# EAGLE library part 615016149521 (library WE_Stecker)
WR-MJ_Modular Jack_Tab UP_8P8C_Assembly1x2 8P8C Tab UP_Pre-Assembly 1x2 <http://katalog.we-online.de/media/images/v2/Family_Con_WR-MJ_Horizontal_Plastic_6150xx149521_pf2.jpg> Details see: http://katalog.we-online.de/en/em/MJ_HORIZONTAL_PLASTIC_ASSEMBLY_8P8C_TAB_UP Created 2014-10-16, Aslant Tao 2014 (C) Würth Elektronik
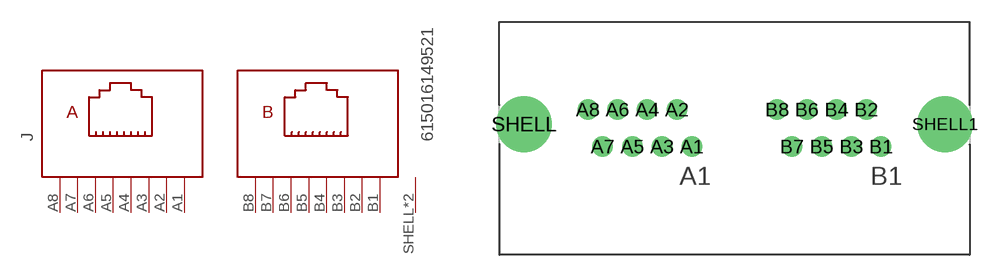
[diagram p156: symbol with the pads of 615016149521; footprint 615016149521]

Designator prefix J

## 615016149521  [615016149521]
A1  A1  pas
A2  A2  pas
A3  A3  pas
A4  A4  pas
A5  A5  pas
A6  A6  pas
A7  A7  pas
A8  A8  pas
B1  B1  pas
B2  B2  pas
B3  B3  pas
B4  B4  pas
B5  B5  pas
B6  B6  pas
B7  B7  pas
B8  B8  pas
SHELL  SHIELD  pas
SHELL1  SHIELD  pas

## Footprint 615016149521 (pad centres in mm)
WR-MJ_Modular Jack_Tab UP_8P8C_Assembly1x2 8P8C Tab UP_Pre-Assembly 1x2
drill 0.9: A1 -2.93,-1.54; A2 -3.95,1; A3 -4.97,-1.54; A4 -5.99,1; A5 -7.01,-1.54; A6 -8.03,1; A7 -9.05,-1.54; A8 -10.07,1; B1 10.07,-1.54; B2 9.05,1; B3 8.03,-1.54; B4 7.01,1; B5 5.99,-1.54; B6 4.97,1; B7 3.95,-1.54; B8 2.93,1
drill 2.8: SHELL -14.44,0; SHELL1 14.44,0